# Altium footprint library VKA.PcbLib: 19 footprints (part 1 of 2)
Each footprint in its own frame and in the unit in brackets; x right, y up, seen from the top. Pads: shape width x height; smd on the part's side, far side on the other; paste and mask are expansions set on the pad; w line width, h text height; cw(c..) or ccw(c..) is an arc to the next point about the centre after c.
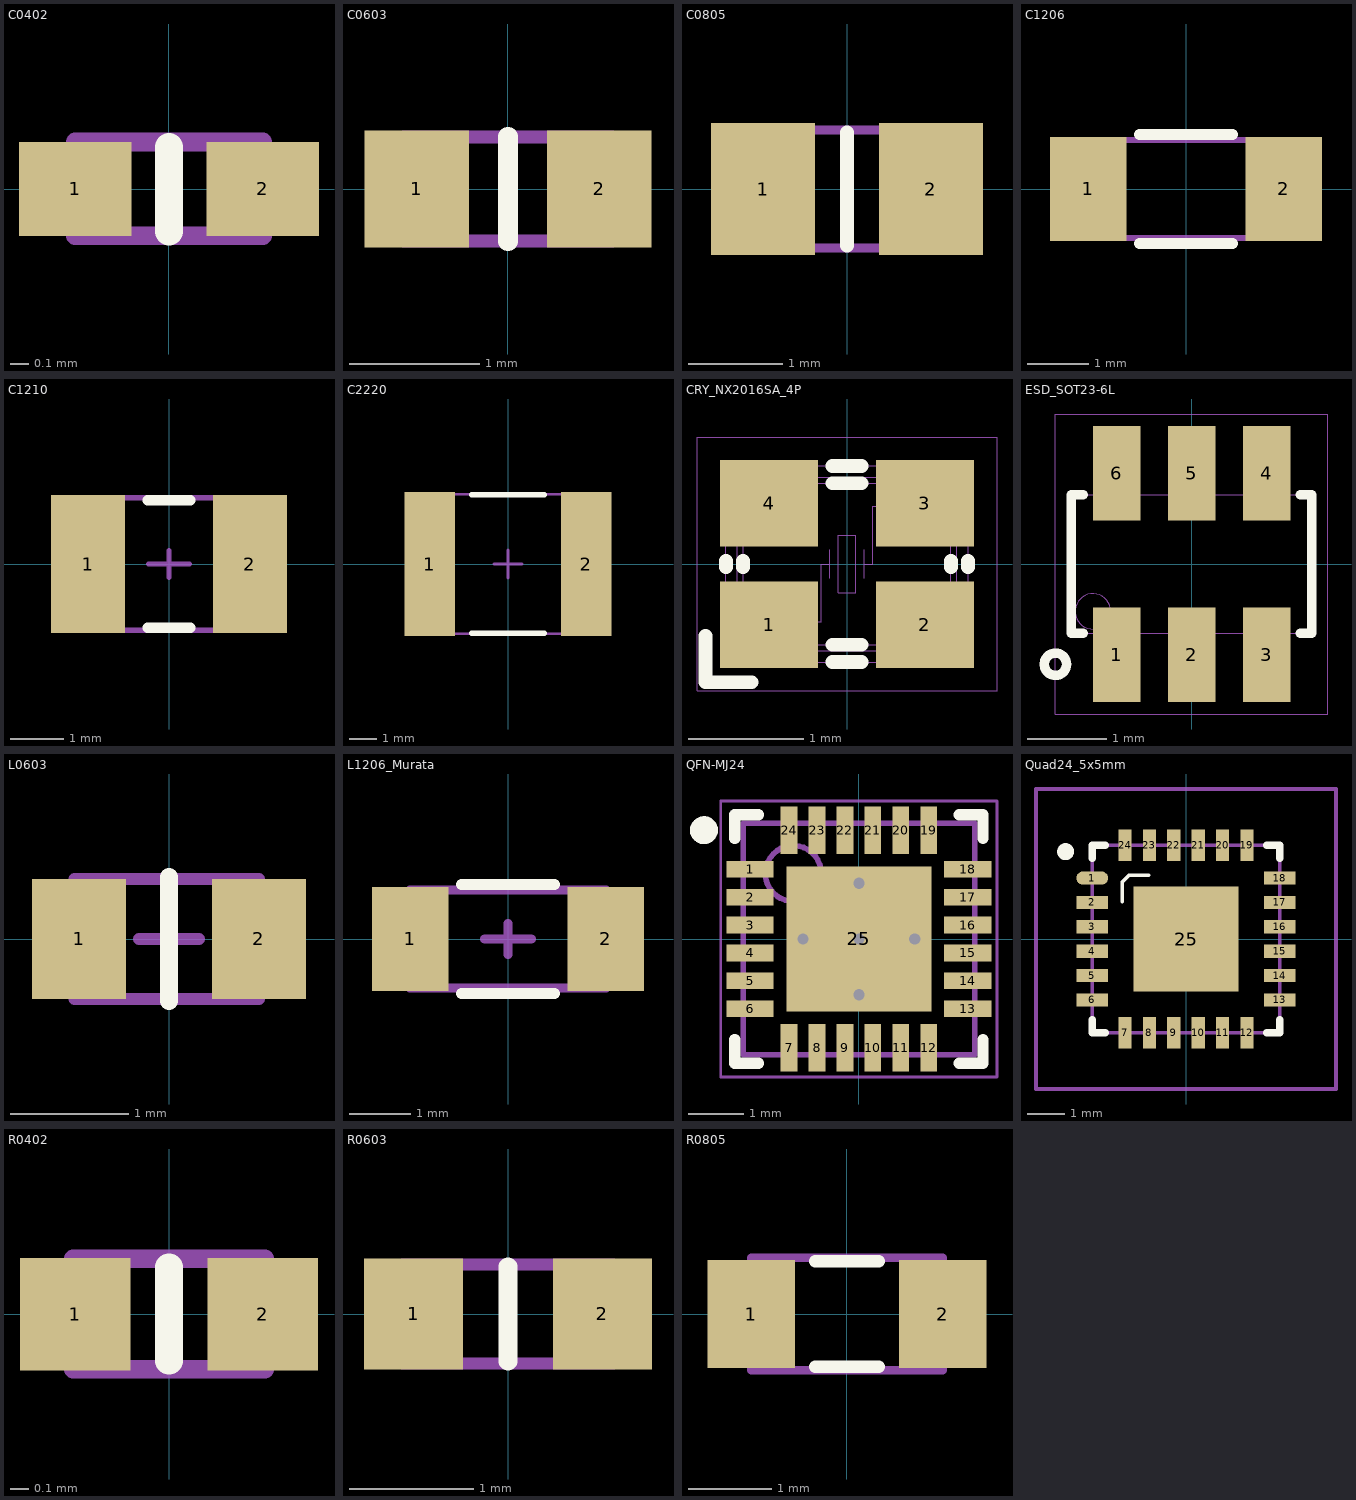
[diagram p0: the footprints below, top view; thin cyan lines are the x and y axes]

## C0402 [mm] "Chip Capacitor, Body 1.0x0.5mm, IPC High Density"
height 1.3
pads (2):
  rect 0.6x0.5 smd: 1(-0.5,0) 2(0.5,0)
Top Overlay:
  lines w0.15: 0,-0.225 0,0.225
Mechanical 1:
  lines w0.1: -0.5,-0.25 0.5,-0.25 0.5,0.25 -0.5,0.25 -0.5,-0.25
3D body "0402-SMD CAPACITOR.step": height 0.49, standoff -0.01, extent -0.5,-0.25 0.5,0.25

## C0603 [mm] "Chip Capacitor, Body 1.6x0.8mm, IPC High Density"
height 1.3
pads (2):
  rect 0.8x0.9 smd: 1(-0.7,0) 2(0.7,0)
Top Overlay:
  lines w0.15: 0,-0.4 0,0.4
Mechanical 1:
  lines w0.1: -0.8,-0.4 -0.8,0.4 0.8,0.4 0.8,-0.4 -0.8,-0.4
3D body "0603-SMD CAPACITOR.step": height 0.79, standoff -0.01, extent -0.8,-0.4 0.8,0.4

## C0805 [mm] "Chip Capacitor, Body 2.0x1.3mm, IPC High Density"
height 1.4
pads (2):
  rect 1.1x1.4 smd: 1(-0.889,0) 2(0.889,0)
Top Overlay:
  lines w0.15: 0,-0.6 0,0.6
Mechanical 1:
  lines w0.1: -1,-0.625 -1,0.625 1,0.625 1,-0.625 -1,-0.625
3D body "0805-SMD CAPACITOR.step": height 0.59, standoff -0.01, extent -1,-0.625 1,0.625

## C1206 [mm]
height 0.5
pads (2):
  rect 1.25x1.7 smd: 1(-1.6,0) 2(1.6,0)
Top Overlay:
  lines w0.178: -0.762,-0.889 0.762,-0.889 ; -0.762,0.889 0.762,0.889
Mechanical 1:
  lines w0.1: -1.6,-0.8 -1.6,0.8 1.6,0.8 1.6,-0.8 -1.6,-0.8
3D body "1206_SMD CAPACITOR.step": height 0.77, standoff -0.01, extent -1.6,-0.8 1.6,0.8

## C1210 [mm] "Chip Capacitor, Body 3.2x2.5mm, IPC High Density"
height 1.3
pads (2):
  rect 1.4x2.6 smd: 1(-1.524,0) 2(1.524,0)
Top Overlay:
  lines w0.2: -0.4,-1.2 0.4,-1.2 ; -0.4,1.2 0.4,1.2
Mechanical 1:
  lines w0.1: -0.381,0 0.381,0 ; 0,-0.254 0,0.254 ; -1.6,-1.25 -1.6,1.25 1.6,1.25 1.6,-1.25 -1.6,-1.25
3D body "1210-SMD CAPACITOR.step": height 0.77, standoff -0.01, extent -1.6,-1.25 1.6,1.25

## C2220 [mm] "Chip Capacitor"
height 2.5
pads (2):
  rect 1.8x5.15 smd: 1(-2.8,0) 2(2.8,0)
Top Overlay:
  lines w0.2: -1.3,-2.475 1.3,-2.475 ; -1.3,2.475 1.3,2.475
Mechanical 1:
  lines w0.1: -0.5,0 0.5,0 ; 0,-0.5 0,0.5 ; -2.8,-2.5 -2.8,2.5 2.8,2.5 2.8,-2.5 -2.8,-2.5
3D body "User Library-SMD CAPACITOR_2220.step": height 1, standoff 0, extent -2.8,-2.5 2.8,2.5

## CRY_NX2016SA_4P [mm]
height 0.5
pads (4):
  rect 0.85x0.75 smd mask+0.05: 1(-0.675,-0.525) 2(0.675,-0.525) 3(0.675,0.525) 4(-0.675,0.525)
Top Overlay:
  lines w0.12: -1.225,-0.625 -1.225,-1.025 -0.825,-1.025 ; -1.05,-0.025 -1.05,0.025 ; -0.9,-0.025 -0.9,0.025 ; -0.125,-0.85 0.125,-0.85 ; -0.125,-0.7 0.125,-0.7 ; -0.125,0.7 0.125,0.7 ; -0.125,0.85 0.125,0.85 ; 0.9,-0.025 0.9,0.025 ; 1.05,-0.025 1.05,0.025
Mechanical 14:
  lines w0.01: -0.9,-0.25 -0.35,-0.25 -0.35,-0.7 ; -0.9,0.25 -0.35,0.25 -0.35,0.7 ; -0.325,-0.5 -0.225,-0.5 -0.225,0 -0.15,0 ; -0.15,-0.125 -0.15,0.125 ; 0.15,-0.125 0.15,0.125 ; 0.15,0 0.225,0 0.225,0.5 0.325,0.5 ; 0.35,-0.7 0.35,-0.25 0.9,-0.25 ; 0.35,0.7 0.35,0.25 0.9,0.25 ; -1.05,-0.7 cw(c-1.05,-0.85) -0.9,-0.85 0.9,-0.85 cw(c1.05,-0.85) 1.05,-0.7 1.05,0.7 cw(c1.05,0.85) 0.9,0.85 -0.9,0.85 cw(c-1.05,0.85) -1.05,0.7 -1.05,-0.7 ; -0.95,-0.6 ccw(c-0.8,-0.6) -0.8,-0.75 0.8,-0.75 ccw(c0.8,-0.6) 0.95,-0.6 0.95,0.6 ccw(c0.8,0.6) 0.8,0.75 -0.8,0.75 ccw(c-0.8,0.6) -0.95,0.6 -0.95,-0.6 ; -0.9,-0.6 ccw(c-0.8,-0.6) -0.8,-0.7 0.8,-0.7 ccw(c0.8,-0.6) 0.9,-0.6 0.9,0.6 ccw(c0.8,0.6) 0.8,0.7 -0.8,0.7 ccw(c-0.8,0.6) -0.9,0.6 -0.9,-0.6 ; -0.075,-0.25 -0.075,0.25 0.075,0.25 0.075,-0.25 -0.075,-0.25
  text "1" at -0.725,-0.65 h0.5
  text "2" at 0.525,-0.65 h0.5
  text "3" at 0.525,0.325 h0.5
  text "4" at -0.75,0.325 h0.5
  text "'.Designator'" at -1.904,2.016 h0.75
Mechanical 16:
  lines w0.01: -1.3,-1.1 1.3,-1.1 1.3,1.1 -1.3,1.1 -1.3,-1.1
3D body "NX2016.STEP": height 0.7, standoff 0, extent -1,-0.8 1,0.8
3D body: height 0.51, standoff 0.5, extent -0.9,-0.7 -0.575,-0.375
3D body: height 0.5, standoff 0, extent -1.05,-0.85 1.05,0.85

## ESD_SOT23-6L [mm]
height 1.45
pads (6):
  rect 0.6x1.2 smd mask+0.05: 1(-0.95,-1.15) 2(0,-1.15) 3(0.95,-1.15) 4(0.95,1.15) 5(0,1.15) 6(-0.95,1.15)
Top Overlay:
  circle w0.12: c-1.725,-1.27 r0.141
  lines w0.12: -1.375,-0.875 -1.525,-0.875 -1.525,0.875 -1.375,0.875 ; 1.375,-0.875 1.525,-0.875 1.525,0.875 1.375,0.875
Mechanical 14:
  circle w0.01: c-1.25,-0.6 r0.224
  lines w0.01: -1.2,-0.875 -1.2,-1.5 -0.7,-1.5 -0.7,-0.875 ; -1.2,0.875 -1.2,1.5 -0.7,1.5 -0.7,0.875 ; -0.25,-0.875 -0.25,-1.5 0.25,-1.5 0.25,-0.875 ; -0.25,0.875 -0.25,1.5 0.25,1.5 0.25,0.875 ; 0.7,-0.875 0.7,-1.5 1.2,-1.5 1.2,-0.875 ; 0.7,0.875 0.7,1.5 1.2,1.5 1.2,0.875 ; -1.525,-0.875 -1.525,0.875 1.525,0.875 1.525,-0.875 -1.525,-0.875
  text "2" at -0.15,-1.425 h0.75
  text "3" at 0.78,-1.43 h0.75
  text "1" at -1.05,-1.425 h0.75
  text "6" at -1.1,0.925 h0.75
  text "5" at -0.15,0.925 h0.75
  text "4" at 0.78,0.91 h0.75
  text "'.Designator'" at 2.091,0.504 h0.75
Mechanical 16:
  lines w0.01: -1.725,-1.9 -1.725,1.9 1.725,1.9 1.725,-1.9 -1.725,-1.9
3D body "SOT23-6.STEP": height 1.3, standoff 0, extent -1.5,-1.5 1.5,1.5
3D body: height 1.45, standoff 0, extent -1.524,-0.874 1.524,0.874

## L0603 [mil] "Chip Capacitor, Body 1.6x0.8mm, IPC High Density"
height 51.18
pads (2):
  rect 31.5x40 smd: 1(-30,0) 2(30,0)
Top Overlay:
  lines w5.91: 0,-20.67 0,20.67
Mechanical 1:
  lines w3.94: -10,0 10,0 ; 0,-10 0,10 ; -31.5,-20 -31.5,20 30,20 30,-20 -31.5,-20
3D body "User Library-Chip Inductor_0603.step": height 30.75, standoff -0.75, extent -31.5,-18.7 31.5,18.7

## L1206_Murata [mm]
height 0.5
pads (2):
  rect 1.25x1.7 smd: 1(-1.6,0) 2(1.6,0)
Top Overlay:
  lines w0.178: -0.762,-0.889 0.762,-0.889 ; -0.762,0.889 0.762,0.889
Mechanical 1:
  lines w0.15: -0.381,0 0.381,0 ; 0,-0.254 0,0.254 ; -1.6,-0.8 -1.6,0.8 1.6,0.8 1.6,-0.8 -1.6,-0.8
3D body "User Library-V1206HD.STEP": height 1.5, standoff 0, extent -1.6,-0.8 1.6,0.8

## PCBComponent_1 [mm]

## QFN-MJ24 [mm] "QFN, 24-Leads, Body 4x4mm, Pitch 0.5mm, Thermal Pad 2.6x2.6mm, Microchip Recommended"
height 0.9
pads (25):
  rect 0.85x0.3 smd: 1(-1.95,1.25) 2(-1.95,0.75) 3(-1.95,0.25) 4(-1.95,-0.25) 5(-1.95,-0.75) 6(-1.95,-1.25) 13(1.95,-1.25) 14(1.95,-0.75) 15(1.95,-0.25) 16(1.95,0.25) 17(1.95,0.75) 18(1.95,1.25)
  rect 0.3x0.85 smd: 7(-1.25,-1.95) 8(-0.75,-1.95) 9(-0.25,-1.95) 10(0.25,-1.95) 11(0.75,-1.95) 12(1.25,-1.95) 19(1.25,1.95) 20(0.75,1.95) 21(0.25,1.95) 22(-0.25,1.95) 23(-0.75,1.95) 24(-1.25,1.95)
  rect 2.6x2.6 smd paste-1.3: 25(0,0)
via 0,0 diameter 0.5 hole 0.2
via 1,0 diameter 0.5 hole 0.2
via -1,0 diameter 0.5 hole 0.2
via 0,1 diameter 0.5 hole 0.2
via 0,-1 diameter 0.5 hole 0.2
Top Overlay:
  circle w0.25: c-2.775,1.95 r0.125
  lines w0.2: -2.225,-1.8 -2.225,-2.225 -1.8,-2.225 ; -2.225,1.8 -2.225,2.225 -1.8,2.225 ; 1.8,-2.225 2.225,-2.225 2.225,-1.8 ; 1.8,2.225 2.225,2.225 2.225,1.8
Top Paste:
  rectangle: 0.1,-1.2 1.2,-0.1
  region: -0.1,-0.1 -1.2,-0.1 -1.2,-1.2 -0.1,-1.2
  region: -0.1,1.2 -1.2,1.2 -1.2,0.1 -0.1,0.1
  rectangle: 0.1,0.1 1.2,1.2
Mechanical 13:
  circle w0.1: c-1.175,1.175 r0.5
  lines w0.1: -2.075,-2.075 -2.075,2.075 2.075,2.075 2.075,-2.075 -2.075,-2.075
Mechanical 15:
  lines w0.05: -2.475,-2.475 2.475,-2.475 2.475,2.475 -2.475,2.475 -2.475,-2.475
  lines w0.1: -0.5,0 0.5,0 ; 0,-0.5 0,0.5
3D body: height 0.9, standoff 0, extent -2.074,-2.074 2.074,2.074

## Quad24_5x5mm [mm]
height 0.9
pads (25):
  oval 0.85x0.35 smd: 1(-2.5,1.625)
  rect 0.85x0.35 smd: 2(-2.5,0.975) 3(-2.5,0.325) 4(-2.5,-0.325) 5(-2.5,-0.975) 6(-2.5,-1.625) 13(2.5,-1.625) 14(2.5,-0.975) 15(2.5,-0.325) 16(2.5,0.325) 17(2.5,0.975) 18(2.5,1.625)
  rect 0.35x0.85 smd: 7(-1.625,-2.5) 8(-0.975,-2.5) 9(-0.325,-2.5) 10(0.325,-2.5) 11(0.975,-2.5) 12(1.625,-2.5) 19(1.625,2.5) 20(0.975,2.5) 21(0.325,2.5) 22(-0.325,2.5) 23(-0.975,2.5) 24(-1.625,2.5)
  rect 2.8x2.8 smd: 25(0,0)
Top Overlay:
  circle w0.3: c-3.21,2.33 r0.075
  lines w0.1: -1.7,1 -1.7,1.52 -1.52,1.7 -1,1.7
  lines w0.2: -2.5,-2.159 -2.5,-2.5 -2.159,-2.5 ; -2.5,2.159 -2.5,2.5 -2.159,2.5 ; 2.159,-2.5 2.5,-2.5 2.5,-2.159 ; 2.159,2.5 2.5,2.5 2.5,2.159
Mechanical 1:
  lines w0.1: -2.5,-2.5 2.5,-2.5 2.5,2.5 -2.5,2.5 -2.5,-2.5
Mechanical 15:
  lines w0.1: -0.8,0 0.8,0 ; 0,-0.8 0,0.8 ; -4,-4 4,-4 4,4 -4,4 -4,-4

## R0402 [mil]
height 12.6
pads (2):
  rect 23.62x24 smd: 1(-20,0) 2(20,0)
Top Overlay:
  lines w5.91: 0,-10 0,10
Mechanical 1:
  lines w3.94: -20.47,-11.8 -20.47,11.82 20.48,11.82 20.48,-11.8 -20.47,-11.8
3D body "User Library-0402R.step": height 13.39, standoff 0, extent -20.47,-11.8 20.48,11.82

## R0603 [mm]
height 1.3
pads (2):
  rect 0.8x0.9 smd: 1(-0.762,0) 2(0.762,0)
Top Overlay:
  lines w0.15: 0,-0.381 0,0.381
Mechanical 1:
  lines w0.1: -0.85,-0.4 0.85,-0.4 0.85,0.4 -0.85,0.4 -0.85,-0.4
3D body "User Library-RES-0603.step": height 0.56, standoff 0, extent -0.85,-0.4 0.85,0.4

## R0805 [mm]
height 0.5
pads (2):
  rect 1.05x1.3 smd: 1(-1.15,0) 2(1.15,0)
Top Overlay:
  lines w0.15: -0.381,-0.635 0.381,-0.635 ; -0.381,0.635 0.381,0.635
Mechanical 1:
  lines w0.1: -1.15,-0.675 -1.15,0.675 1.15,0.675 1.15,-0.675 -1.15,-0.675
3D body "User Library-RES-0805.step": height 0.76, standoff 0, extent -1.15,-0.675 1.15,0.675